# Altium schematic symbol library amp.SchLib: 108 symbols
Pins are listed as number, name and electrical type; pins without a type are passive.

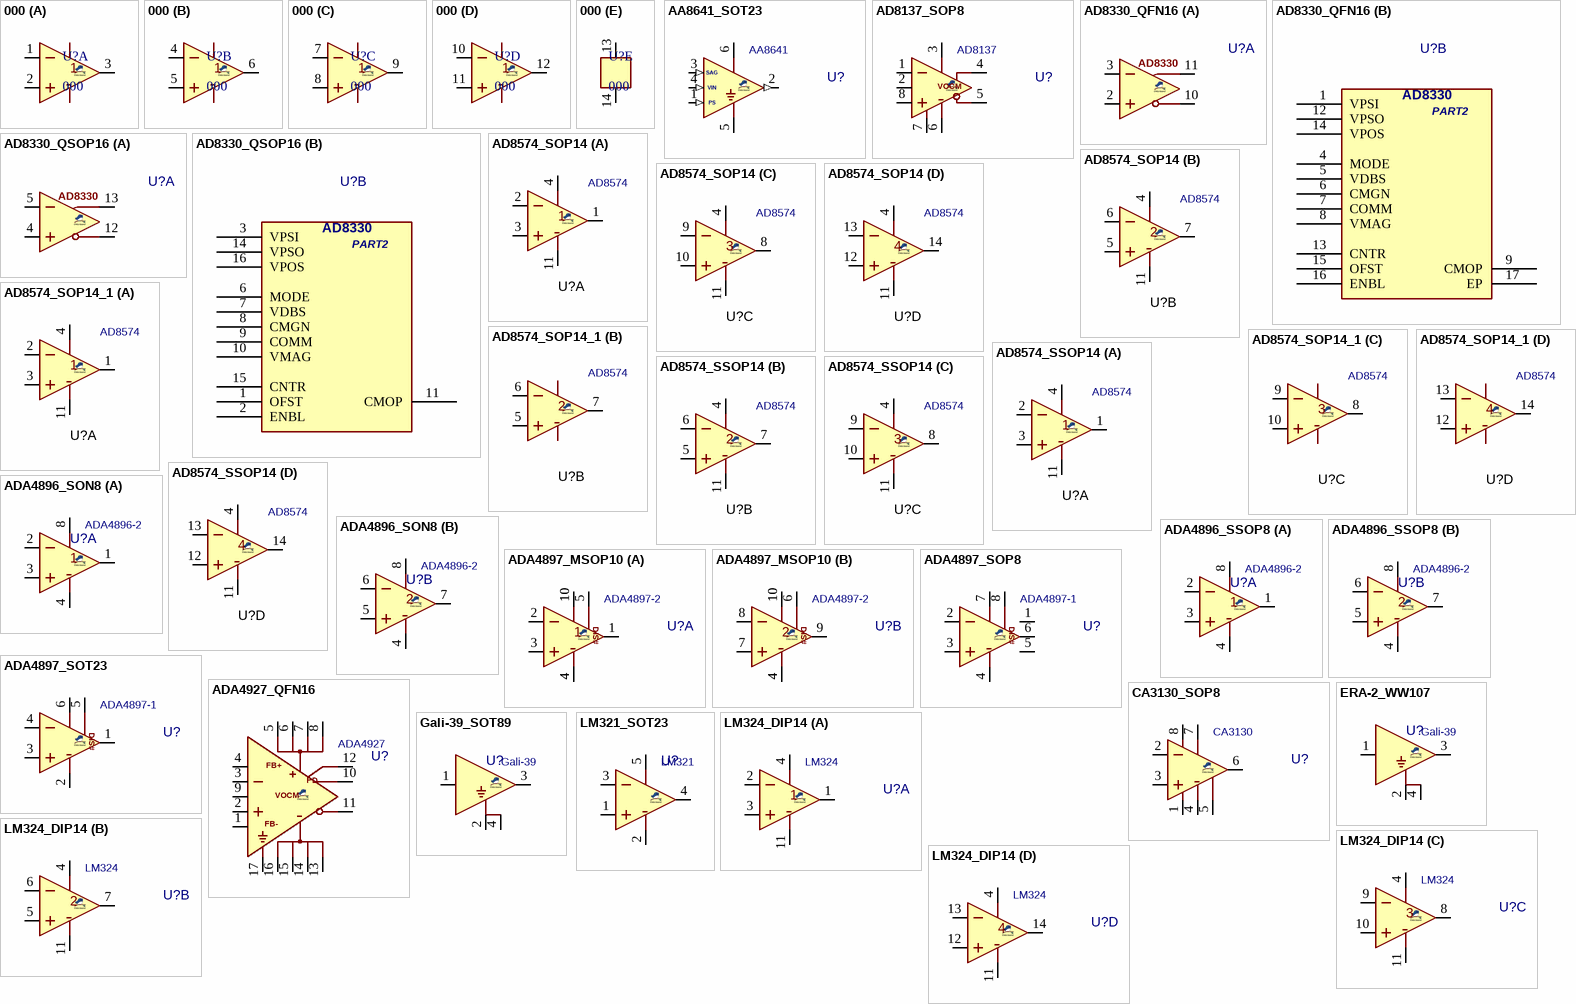
[diagram p0: symbols 000 to LM324_DIP14]

## 000
designator U?
footprint SO_14 (SOP, SOIC, 3.9mm width, 1.27mm pitch,)
part A pins: 1, 2, 3
part B pins: 4, 5, 6
part C pins: 7, 8, 9
part D pins: 10, 11, 12
part E pins: 13, 14

## AA8641_SOT23
designator U?, comment AA8641
AMP, Video, low voltage; MANF: Agamem; PARAM2: 2.8~5.5v; PARAM: BW 100k~6MHz, -40~85°C; MANF_P#: AA8641; PRICE: 2.8$; PACKAGE: SOT-23-6; VALUE: AA8641
footprint SO_8
pins: 1 PS (in), 2 OUT (out), 3 SAG (in), 4 IN (in), 5 GND (power), 6 VCC (power)
text: VIN

## AD8137_SOP8
designator U?, comment AD8137
AMP, Differential, LowCost, LowPWR; MANF: Analog Devices; MANF_P#: AD8137YRZ; PARAM2: 2.7~12v (±1.35~6V); PARAM: BW 110MHz, 450V/uS, -40~125°C; PRICE: 2.8$; VALUE: AD8137
footprint SO_8
pins: 1 IN-, 2 OCM (power), 3 V+, 4 OP, 5 ON, 6 V-, 7 EN, 8 IN+
text: VOCM

## AD8330_QFN16
designator U?, comment AD8330  (value not drawn)
AMP, Differential, Hi-Sp, Fully-Diff, VGA; MANF: Analog Devices; PARAM: 150MHz BW; PARAM2: 2.7~6V; MANF_P#: AD8330ACPZ; VALUE: AD8330
footprint QFN50_16T_3X3 (RGT PVQFN (TI), 16-lead, pitch: 0.5mm, 3x3mm)
part A pins: 2 INHI, 3 INLO, 10 OPLO, 11 OPHI
part B pins: 1 VPSI (power), 4 MODE, 5 VDBS, 6 CMGN, 7 COMM, 8 VMAG, 9 CMOP, 12 VPSO (power), 13 CNTR, 14 VPOS (power), 15 OFST, 16 ENBL, 17 EP
part B text: PART2

## AD8330_QSOP16
designator U?, comment AD8330  (value not drawn)
AMP, Differential, Hi-Sp, Fully-Diff, VGA; MANF: Analog Devices; PARAM: 150MHz BW; PARAM2: 2.7~6V; MANF_P#: AD8330ACPZ; VALUE: AD8330
footprint SOG63_16 (SOP DBQ, QSOP, 16-Leads, Body 4.90x3.90mm, Pitch 0.635mm)
part A pins: 4 INHI, 5 INLO, 12 OPLO, 13 OPHI
part B pins: 1 OFST, 2 ENBL, 3 VPSI (power), 6 MODE, 7 VDBS, 8 CMGN, 9 COMM, 10 VMAG, 11 CMOP, 14 VPSO (power), 15 CNTR, 16 VPOS (power)
part B text: PART2

## AD8574_SOP14
designator U?, comment AD8574
AMP, Quad, Zero-Drift, Single-Supply, 10pA input; MANF: Analog Devices Inc; MANF_P#: AD8574ARZ; PARAM2: 2.7~5V; PARAM: 1uV OFFSET, 10pA input, -40~125°C; PRICE: 7.3$; VALUE: AD8574
footprint SO_14 (SOP, SOIC, 3.9mm width, 1.27mm pitch,)
part A pins: 1 OUT, 2 IN-, 3 IN+, 4 V+, 11 V-
part B pins: 4 V+, 5 IN+, 6 IN-, 7 OUT, 11 V-
part C pins: 4 V+, 8 OUT, 9 IN-, 10 IN+, 11 V-
part D pins: 4 V+, 11 V-, 12 IN+, 13 IN-, 14 OUT

## AD8574_SOP14_1
designator U?, comment AD8574
AMP, Quad, Zero-Drift, Single-Supply, 10pA input; MANF: Analog Devices Inc; MANF_P#: AD8574ARZ; PARAM2: 2.7~5V; PARAM: 1uV OFFSET, 10pA input, -40~125°C; PRICE: 7.3$; VALUE: AD8574
footprint SO_14 (SOP, SOIC, 3.9mm width, 1.27mm pitch,)
part A pins: 1 OUT, 2 IN-, 3 IN+, 4 V+, 11 V-
part B pins: 5 IN+, 6 IN-, 7 OUT
part C pins: 8 OUT, 9 IN-, 10 IN+
part D pins: 12 IN+, 13 IN-, 14 OUT

## AD8574_SSOP14
designator U?, comment AD8574
AMP, Quad, Zero-Drift, Single-Supply, 10pA input; MANF: Analog Devices Inc; MANF_P#: AD8574TRU; PARAM2: 2.7~5V; PARAM: 1uV OFFSET, 10pA input, -40~125°C; PRICE: 7.3$; VALUE: AD8574
footprint SOG65_14 (PW TSSOP (TI), MO-153-AB (JEDEC), 14Lead, pitch: 0.65mm, 5x4.4x1.2mm)
part A pins: 1 OUT, 2 IN-, 3 IN+, 4 V+, 11 V-
part B pins: 4 V+, 5 IN+, 6 IN-, 7 OUT, 11 V-
part C pins: 4 V+, 8 OUT, 9 IN-, 10 IN+, 11 V-
part D pins: 4 V+, 11 V-, 12 IN+, 13 IN-, 14 OUT

## ADA4896_SON8
designator U?, comment ADA4896-2
AMP, Low Noise, LowPower, LowDistortion; MANF: Analog Devices; MANF_P#: ADA4896-2ACPZ; PARAM2: 3~10v,  1nV/√Hz, 230MHz BW; PARAM: 3mA power, -40~125°C; PRICE: 7.7$; VALUE: ADA4896-2
footprint SON50_8T_3X3 (WSON-8, DRG, LFCSP_WD, 3X3mm 0.5mm pitch with Thermal pad)
pins on every part: 4 V-, 8 V+
part A pins: 1 OUT, 2 IN-, 3 IN+
part B pins: 5 IN+, 6 IN-, 7 OUT

## ADA4896_SSOP8
designator U?, comment ADA4896-2
AMP, Low Noise, LowPower, LowDistortion; MANF: Analog Devices; MANF_P#: ADA4896-2ARMZ; PARAM2: 3~10v,  1nV/√Hz, 230MHz BW; PARAM: 3mA power, -40~125°C; PRICE: 7.7$; VALUE: ADA4896-2
footprint SOG65_8_3 (pitch: 0.65mm, 3.0mmX3.0mm, SSOP DCT SM8 (TI), TSSOP8, MICRO8, DGK, MSOP8, RM-8, MS8, MSOP-8, usop8/8uSOP)
pins on every part: 4 V-, 8 V+
part A pins: 1 OUT, 2 IN-, 3 IN+
part B pins: 5 IN+, 6 IN-, 7 OUT

## ADA4897_MSOP10
designator U?, comment ADA4897-2
AMP, Low Noise, LowPower, LowDistortion; MANF: Analog Devices; MANF_P#: ADA4897-2ARMZ; PARAM2: 3~10v,  1nV/√Hz, 230MHz BW; PARAM: 3mA power, -40~125°C; PRICE: 7.7$; VALUE: ADA4897-2
footprint SOG50_10 (MSSOP10, 3X3mm 0.5mm pitch, S-PDSO10_S300-50, MSOP10, 10uSOP/usop10 (Dallas), MO-187BA(JEDEC))
pins on every part: 4 V-, 4 V-, 10 V+, 10 V+
part A pins: 1 OUT, 2 IN-, 3 IN+, 5 DISABLE1#
part B pins: 6 DISABLE1#, 7 IN+, 8 IN-, 9 OUT
part A text: DIS#
part B text: DIS#

## ADA4897_SOP8
designator U?, comment ADA4897-1
AMP, Low Noise, LowPower, LowDistortion; MANF: Analog Devices; MANF_P#: ADA4897-1ARZ; PARAM2: 3~10v,  1nV/√Hz, 230MHz BW; PARAM: 3mA power, -40~125°C; PRICE: 5$; VALUE: ADA4897-1
footprint SO_8 (SOP-8, 5x3.9mm body 1.27mm pitch, SOT96-1, M08A, S8, SOIC8, VO8, MS-012AA(JEDEC), R-8, 8S2, VOG8)
pins: 1 NC, 2 IN-, 3 IN+, 4 V-, 5 NC, 6 OUT, 7 V+, 8 DISABLE#
text: DIS#

## ADA4897_SOT23
designator U?, comment ADA4897-1
AMP, Low Noise, LowPower, LowDistortion; MANF: Analog Devices; MANF_P#: ADA4897-1ARJZ; PARAM2: 3~10v,  1nV/√Hz, 230MHz BW; PARAM: 3mA power, -40~125°C; PRICE: 6$; PACKAGE: SOT-23-6; VALUE: ADA4897-1
footprint SOT23_6 (SOT-23-6, DDC, MICRO6, SOT-26, SOT457, SuperSOT6, TSOP-6, HMC313, MO-178AB, MO-193AA, TSOT)
pins: 1 OUT, 2 V-, 3 IN+, 4 IN-, 5 DISABLE#, 6 V+
text: DIS#

## ADA4927_QFN16
designator U?, comment ADA4927
AMP, Differential, Hi-Sp, Fully-Diff, Ultralow Distortion Current Feedback; MANF: Analog Devices; PARAM: 2.3GHz BW; MANF_P#: ADA4927-1YCPZ; PRICE: 1= 9$; PARAM2: PARAM2; VALUE: ADA4927
footprint QFN50_16T_3X3 (RGT PVQFN (TI), 16-lead, pitch: 0.5mm, 3x3mm)
pins: 1 -FB, 2 IN+, 3 IN-, 4 +FB, 5 V+ (power), 6 V+ (power), 7 V+ (power), 8 V+ (power), 9 VOCM, 10 OUT+, 11 OUT-, 12 PD, 13 V- (power), 14 V- (power), 15 V- (power), 16 V- (power), 17 THERMAL
text: FB+; FB-

## CA3130_SOP8
designator U?, comment CA3130
AMP, 15MHz, BiMOS, MOSFET Input/CMOS Output; MANF: Intresil; MANF_P#: CA3130AM; PARAM2: 5~16V, ±2.5~±8V; VALUE: CA3130
footprint SO_8
pins: 1 OFFSET_NULL, 2 IN-, 3 IN+, 4 V-, 5 OFFSET_NULL, 6 OUT, 7 V+, 8 STROBE

## ERA-2_WW107
designator U?, comment Gali-39
AMP, RF, Monolithic, DC-6GHz; MANF: Mini-Circuits; MANF_P#: ERA-2+; PARAM2: +7~20V; VALUE: Gali-39
footprint RDB_4_2X2 (ERA, AF320/WW107/AF190/PAT (MINI-CIRCUITS), MSA-0986)
pins: 1 RFIN, 2 G, 3 RFOUT, 4 GND

## Gali-39_SOT89
designator U?, comment Gali-39
AMP, RF, Monolithic, DC-7 GHz; MANF: Mini-Circuits; MANF_P#: Gali-39+; PARAM2: +7~20V; VALUE: Gali-39
footprint SOT89_3 (SOT89, SOT-89, SBF-4089, SOT89A, GALI, SC-62, DF782, TO-243AA(JEDEC))
pins: 1 IN, 2 G, 3 OUT, 4 GND

## LM321_SOT23
designator U?, comment LM321
AMP, 1MHz, Lo-Pwr; MANF: Texas Instruments; MANF_P#: LM321MF; PARAM2: 3~32Vcc; PARAM: 1MHz BW, 45nA input bias, 430uA, -40~85°C; PACKAGE: SOT-23-5; VALUE: LM321
footprint SOT23_5 (SOT-23-5, SOT25, SOT-25, DBV(R-PDSO-G5), TSOT23-5, SC-74A, SOT23-5, S5-T (LINEAR), MO-178AA, MO-193AB(JEDEC), MF05A (NS), TSOP-6(ON), UJ-5 (AD))
pins: 1 IN+, 2 V-, 3 IN-, 4 OUT, 5 V+

## LM324_DIP14
designator U?, comment LM324
AMP, Quad, Single-Supply; MANF: ON, Texas Instruments, ST; MANF_P#: LM324AN; VALUE: LM324
footprint DIP_14 (DIP, pitch 2.54mm, 300mil Width)
pins on every part: 4 V+, 11 V-
part A pins: 1 OUT, 2 IN-, 3 IN+
part B pins: 5 IN+, 6 IN-, 7 OUT
part C pins: 8 OUT, 9 IN-, 10 IN+
part D pins: 12 IN+, 13 IN-, 14 OUT

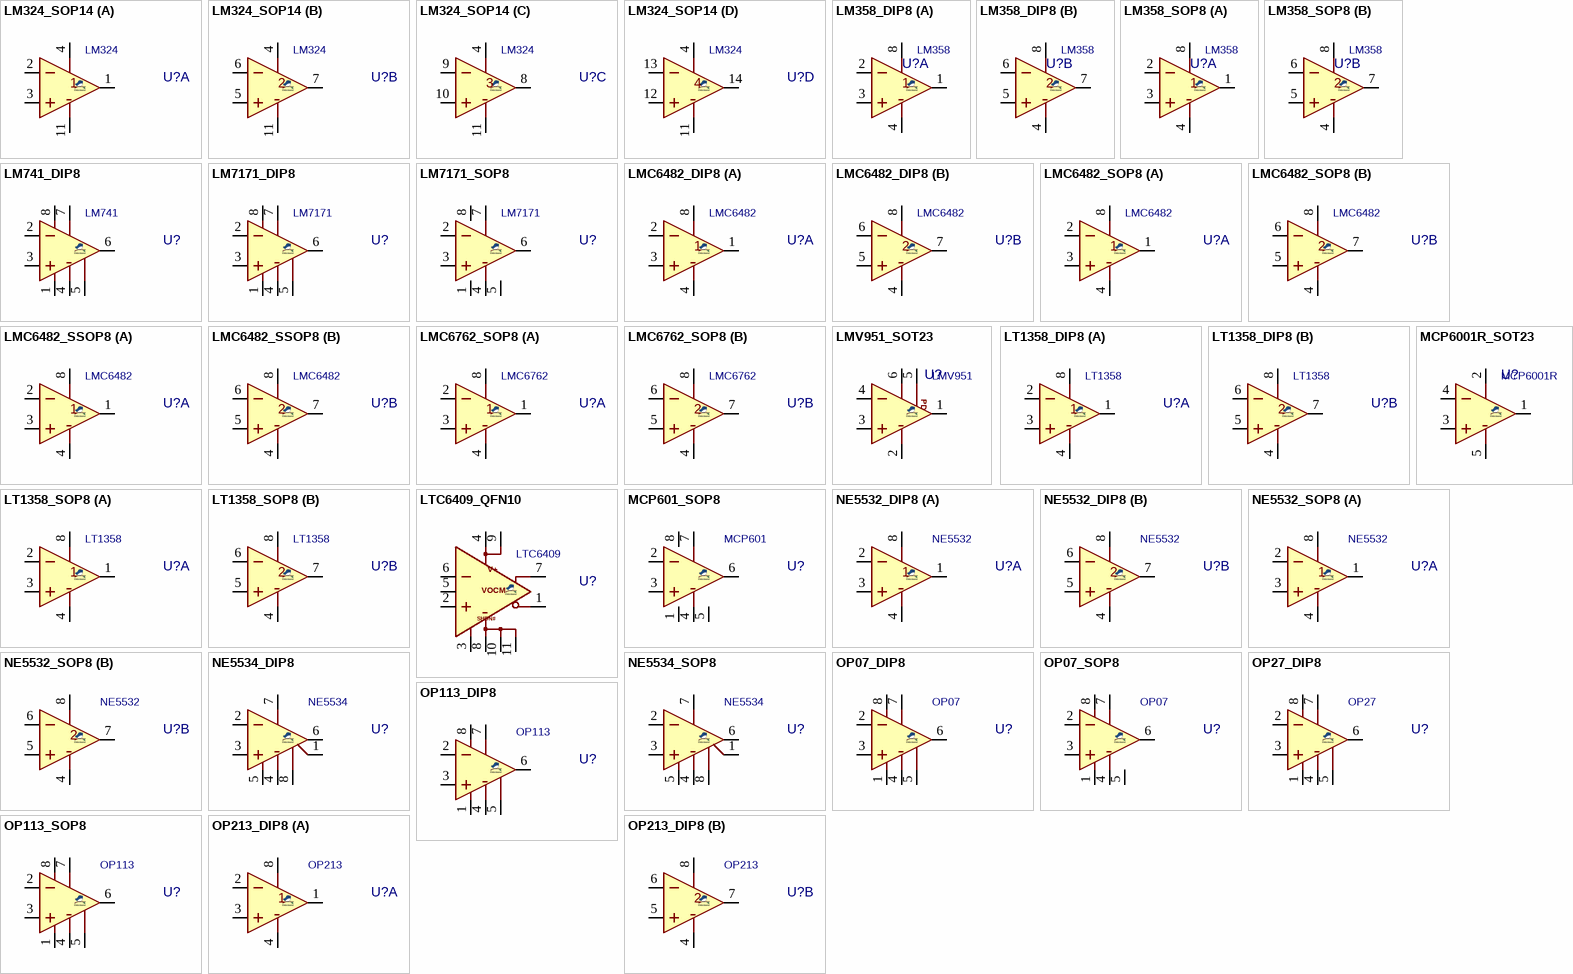
[diagram p1: symbols LM324_SOP14 to OP213_DIP8]

## LM324_SOP14
designator U?, comment LM324
AMP, Quad, Single-Supply; MANF: ON, Texas Instruments, ST; MANF_P#: LM324AD; VALUE: LM324
footprint SO_14
pins on every part: 4 V+, 11 V-
part A pins: 1 OUT, 2 IN-, 3 IN+
part B pins: 5 IN+, 6 IN-, 7 OUT
part C pins: 8 OUT, 9 IN-, 10 IN+
part D pins: 12 IN+, 13 IN-, 14 OUT

## LM358_DIP8
designator U?, comment LM358
AMP, Dual, Low-Power; MANF: Texas Instruments, Fairchild; MANF_P#: LM358AN; PARAM2: 3 V ~ 32 V, ±1.5 V ~ 16 V; PRICE: -; VALUE: LM358
footprint DIP_8 (DIP, pitch 2.54mm, 300mil Width)
pins on every part: 4 V-, 8 V+
part A pins: 1 OUT, 2 IN-, 3 IN+
part B pins: 5 IN+, 6 IN-, 7 OUT

## LM358_SOP8
designator U?, comment LM358
AMP, Dual, Low-Power; MANF: Texas Instruments, Fairchild; MANF_P#: LM358AMX; PARAM2: 3 V ~ 32 V, ±1.5 V ~ 16 V; PRICE: 1=0.47, 25=0.31, 100=0.2547, 250=0.21224, 500=0.17632, 750=0.14692, 1000=0.1306 (USD); VALUE: LM358
footprint SO_8
pins on every part: 4 V-, 8 V+
part A pins: 1 OUT, 2 IN-, 3 IN+
part B pins: 5 IN+, 6 IN-, 7 OUT

## LM741_DIP8
designator U?, comment LM741
AMP, General-Purpose; MANF: Texas Instruments; MANF_P#: LM741CN; VALUE: LM741
footprint DIP_8 (DIP, pitch 2.54mm, 300mil Width)
pins: 1 OFFSET_NULL, 2 IN-, 3 IN+, 4 V-, 5 OFFSET_NULL, 6 OUT, 7 V+, 8 NC

## LM7171_DIP8
designator U?, comment LM7171
AMP, Very High Sp, High Output Current, VoltageFeedback; MANF: Texas Instruments; MANF_P#: LM7171BIN; VALUE: LM7171
footprint DIP_8 (DIP, pitch 2.54mm, 300mil Width)
pins: 1, 2 IN-, 3 IN+, 4 V-, 5, 6 OUT, 7 V+, 8

## LM7171_SOP8
designator U?, comment LM7171
AMP, Very High Sp, High Output Current, VoltageFeedback; MANF: Texas Instruments; MANF_P#: LM7171BIMX, LM7171BIM, LM7171AIM; VALUE: LM7171
footprint SO_8
pins: 1, 2 IN-, 3 IN+, 4 V-, 5, 6 OUT, 7 V+, 8

## LMC6482_DIP8
designator U?, comment LMC6482
AMP, Dual,; MANF: Texas Instruments; MANF_P#: LMC6482IN, LMC6482AIN; VALUE: LMC6482
footprint DIP_8 (DIP, pitch 2.54mm, 300mil Width)
part A pins: 1 OUT, 2 IN-, 3 IN+, 4 V-, 8 V+
part B pins: 4 V-, 5 IN+, 6 IN-, 7 OUT, 8 V+

## LMC6482_SOP8
designator U?, comment LMC6482
AMP, Dual,; MANF: Texas Instruments; MANF_P#: LMC6482AIMX, LMC6482IMX, LMC6482AIM, LMC6482IM; VALUE: LMC6482
footprint SO_8
part A pins: 1 OUT, 2 IN-, 3 IN+, 4 V-, 8 V+
part B pins: 4 V-, 5 IN+, 6 IN-, 7 OUT, 8 V+

## LMC6482_SSOP8
designator U?, comment LMC6482
AMP, Dual,; MANF: Texas Instruments; MANF_P#: LMC6482IMMX, LMC6482IMM; VALUE: LMC6482
footprint SOG65_8_3 (pitch: 0.65mm, 3.0mmX3.0mm, SSOP DCT SM8 (TI), TSSOP8, MICRO8, DGK, MSOP8, RM-8, MS8, MSOP-8, usop8/8uSOP)
part A pins: 1 OUT, 2 IN-, 3 IN+, 4 V-, 8 V+
part B pins: 4 V-, 5 IN+, 6 IN-, 7 OUT, 8 V+

## LMC6762_SOP8
designator U?, comment LMC6762
AMP, Dual, MicroPower, Push-Pull Output, R-To-R Input CMOS Comparator; MANF: Texas Instruments; MANF_P#: LMC6762BIMX, LMC6762BIM, LMC6762AIMX, LMC6762AIM; VALUE: LMC6762
footprint SO_8
part A pins: 1 OUT, 2 IN-, 3 IN+, 4 V-, 8 V+
part B pins: 4 V-, 5 IN+, 6 IN-, 7 OUT, 8 V+

## LMV951_SOT23
designator U?, comment LMV951
AMP, 1V 2.7MHz RR Input & Output; MANF: Texas Instruments; MANF_P#: LMV951MK, LMV951MKX; PACKAGE: SOT-23-6; VALUE: LMV951
footprint SOT23_6 (SOT-23-6, MICRO6, SOT-26, SOT457, SuperSOT6, TSOP-6, HMC313, MO-178AB, MO-193AA, TSOT)
pins: 1 OUT, 2 V-, 3 IN+, 4 IN-, 5 SHDN (power), 6 V+
text: PD

## LT1358_DIP8
designator U?, comment LT1358
AMP, Dual, 25MHz, 600V/µs; MANF: Linear Technology; MANF_P#: LT1358CN8, LT1358IN8; VALUE: LT1358
footprint DIP_8 (DIP, pitch 2.54mm, 300mil Width)
part A pins: 1 OUT, 2 IN-, 3 IN+, 4 V-, 8 V+
part B pins: 4 V-, 5 IN+, 6 IN-, 7 OUT, 8 V+

## LT1358_SOP8
designator U?, comment LT1358
AMP, Dual, 25MHz, 600V/µs; MANF: Linear Technology; MANF_P#: LT1358CS8, LT1358IS8; VALUE: LT1358
footprint SO_8
part A pins: 1 OUT, 2 IN-, 3 IN+, 4 V-, 8 V+
part B pins: 4 V-, 5 IN+, 6 IN-, 7 OUT, 8 V+

## LTC6409_QFN10
designator U?, comment LTC6409
AMP, Differential, 10GHz BW; MANF: Analog Devices; MANF_P#: LTC6409IUDB; PARAM2: 2.7~5.25v; PARAM: BW 10GHz, 3300V/uS, -40~85°C; PRICE: 10$; PACKAGE: QFN-10 3x2mm UDB; VALUE: LTC6409
footprint QFN50_10T_3020_UDB (QFN-10 3x2mm, UDB)
pins: 1 -OUT, 2 +IN, 3 SHDN#, 4 V+, 5 VOCM, 6 -IN, 7 +OUT, 8 V-, 9 V+, 10 V-, 11 V-

## MCP601_SOP8
designator U?, comment MCP601
AMP, 2.7~6.0V Single Supply CMOS; MANF: Microchip; MANF_P#: MCP601-I/SN, MCP601T-E/SN, MCP601-E/SN; VALUE: MCP601
footprint SO_8
pins: 1, 2 IN-, 3 IN+, 4 V-, 5, 6 OUT, 7 V+, 8

## MCP6001R_SOT23
designator U?, comment MCP6001R
AMP, Lo-Pwr, rail-to-rail, 1MHz; MANF: Microchip; MANF_P#: MCP6001RT-I/OT; PARAM2: 1.8~6Vcc; PARAM: -40~+85°C; PRICE: 0.2$; PACKAGE: SOT-23-5; VALUE: MCP6001R
footprint SOT23_5 (SOT-23-5, SOT25, SOT-25, DBV(R-PDSO-G5), TSOT23-5, SC-74A, SOT23-5, S5-T (LINEAR), MO-178AA, MO-193AB(JEDEC), MF05A (NS), TSOP-6(ON), UJ-5 (AD))
pins: 1 OUT, 2 V+, 3 IN+, 4 IN-, 5 V-

## NE5532_DIP8
designator U?, comment NE5532
AMP, Dual, Low-Noise; MANF: ON, Texas Instruments; MANF_P#: NE5532AN, NE5532P; VALUE: NE5532
footprint DIP_8 (DIP, pitch 2.54mm, 300mil Width)
part A pins: 1 OUT, 2 IN-, 3 IN+, 4 V-, 8 V+
part B pins: 4 V-, 5 IN+, 6 IN-, 7 OUT, 8 V+

## NE5532_SOP8
designator U?, comment NE5532
AMP, Dual, Low-Noise; MANF: ON, Texas Instruments; MANF_P#: NE5532AD; VALUE: NE5532
footprint SO_8
part A pins: 1 OUT, 2 IN-, 3 IN+, 4 V-, 8 V+
part B pins: 4 V-, 5 IN+, 6 IN-, 7 OUT, 8 V+

## NE5534_DIP8
designator U?, comment NE5534
AMP, Low-Noise; MANF: ON; MANF_P#: NE5534N; PARAM2: ±3~±20V; PARAM: 3.5 nV/√Hz; VALUE: NE5534
footprint DIP_8 (DIP, pitch 2.54mm, 300mil Width)
pins: 1 BALANCE, 2 IN-, 3 IN+, 4 V-, 5 COMP1, 6 OUT, 7 V+, 8 COMP2

## NE5534_SOP8
designator U?, comment NE5534
AMP, Low-Noise; MANF: ON, Texas Instruments; MANF_P#: NE5534AD; PARAM2: ±3~±20V; PARAM: 3.5 nV/√Hz; PRICE: 1$; VALUE: NE5534
footprint SO_8
pins: 1 BALANCE, 2 IN-, 3 IN+, 4 V-, 5 CMP1, 6 OUT, 7 V+, 8 CMP2

## OP07_DIP8
designator U?, comment OP07
AMP, Ultralow Offset; MANF: Analog Devices; MANF_P#: OP07EPZ, OP07DNZ, OP07CPZ; PARAM2: ±3~18V; VALUE: OP07
footprint DIP_8 (DIP, pitch 2.54mm, 300mil Width)
pins: 1 VOSTRM, 2 IN-, 3 IN+, 4 V-, 5 NC, 6 OUT, 7 V+, 8 VOSTRIM

## OP07_SOP8
designator U?, comment OP07
AMP, Ultralow Offset; MANF: Analog Devices; MANF_P#: OP07CSZ, OP07DRZ; PARAM2: ±3~18V; VALUE: OP07
footprint SO_8
pins: 1 VOSTRM, 2 IN-, 3 IN+, 4 V-, 5 NC, 6 OUT, 7 V+, 8 VOSTRIM

## OP27_DIP8
designator U?, comment OP27
AMP, Ultralow Offset; MANF: Analog Devices; PARAM2: ±3~18V; MANF_P#: OP27; VALUE: OP27
footprint DIP_8 (DIP, pitch 2.54mm, 300mil Width)
pins: 1 VOSTRM, 2 IN-, 3 IN+, 4 V-, 5 NC, 6 OUT, 7 V+, 8 VOSTRIM

## OP113_DIP8
designator U?, comment OP113
AMP, Low-Noise, Low Drift, Single-Supply; MANF: Analog Devices; MANF_P#: OP113EPZ; PARAM2: 4~36V, ±2~±18V; PARAM: 3.4 MHz BW; VALUE: OP113
footprint DIP_8 (DIP, pitch 2.54mm, 300mil Width)
pins: 1 OFFSET_NULL, 2 IN-, 3 IN+, 4 V-, 5 OFFSET_NULL, 6 OUT, 7 V+, 8 NC

## OP113_SOP8
designator U?, comment OP113
AMP, Low-Noise, Low Drift, Single-Supply; MANF: Analog Devices; MANF_P#: OP113ESZ; PARAM2: 4~36V, ±2~±18V; PARAM: 3.4 MHz BW; VALUE: OP113
footprint SO_8
pins: 1 OFFSET_NULL, 2 IN-, 3 IN+, 4 V-, 5 OFFSET_NULL, 6 OUT, 7 V+, 8 NC

## OP213_DIP8
designator U?, comment OP213
AMP, DUAL, Low-Noise, Low Drift, Single-Supply; MANF: Analog Devices; MANF_P#: OP213EP, OP213FP; PARAM2: 4~36V, ±2~±18V; VALUE: OP213
footprint DIP_8 (DIP, pitch 2.54mm, 300mil Width)
part A pins: 1 OUT, 2 IN-, 3 IN+, 4 V-, 8 V+
part B pins: 4 V-, 5 IN+, 6 IN-, 7 OUT, 8 V+

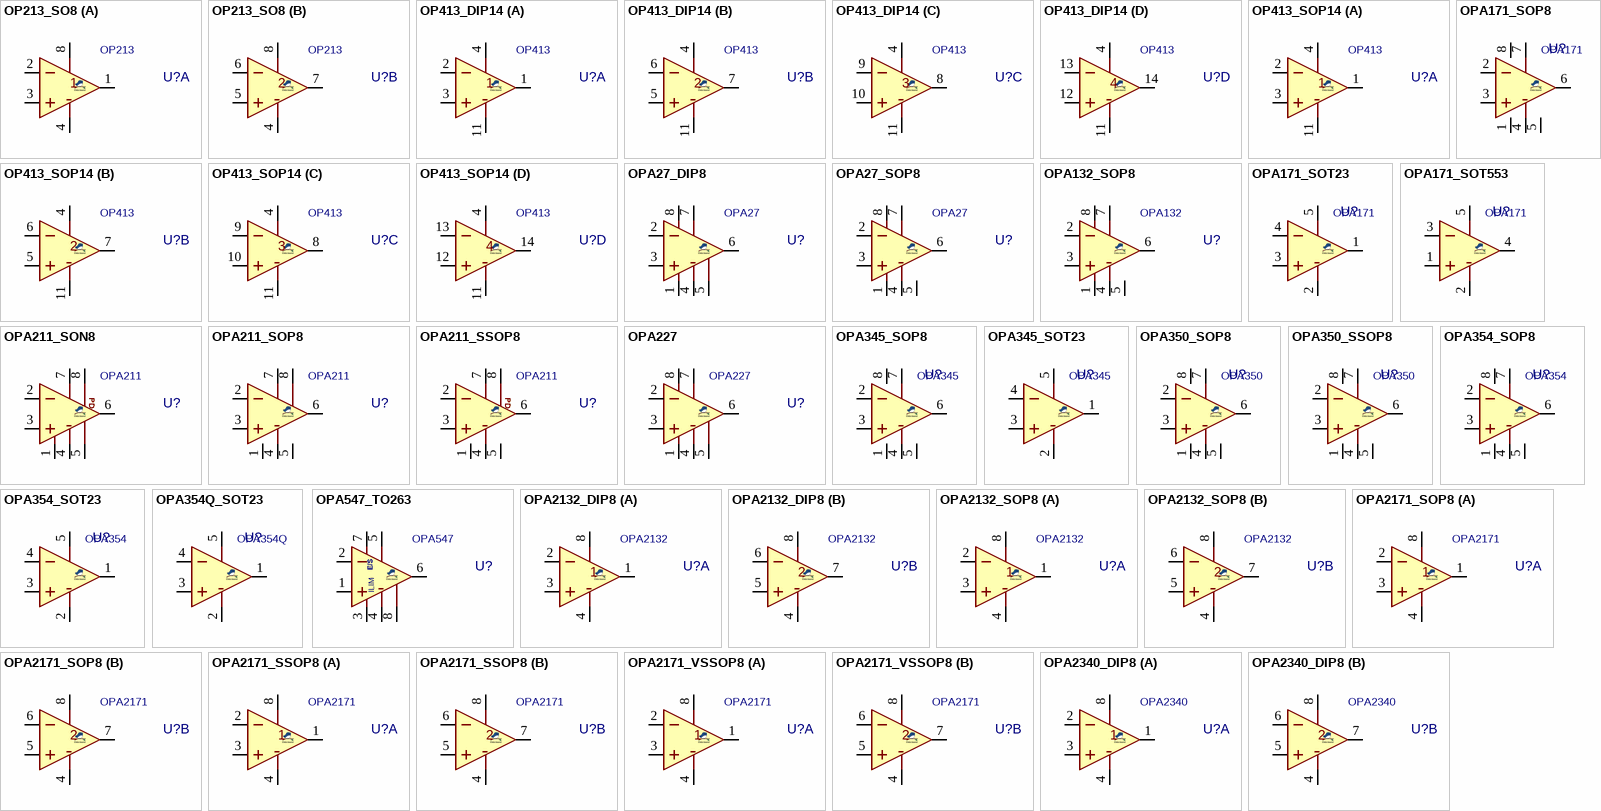
[diagram p2: symbols OP213_SO8 to OPA2340_DIP8]

## OP213_SO8
designator U?, comment OP213
AMP, DUAL, Low-Noise, Low Drift, Single-Supply; MANF: Analog Devices; MANF_P#: OP213ES, OP213FS; PARAM2: 4~36V, ±2~±18V; VALUE: OP213
footprint SO_8
part A pins: 1 OUT, 2 IN-, 3 IN+, 4 V-, 8 V+
part B pins: 4 V-, 5 IN+, 6 IN-, 7 OUT, 8 V+

## OP413_DIP14
designator U?, comment OP413
AMP, Low-Noise, Low Drift, Single-Supply; MANF: Analog Devices; MANF_P#: OP413EP, OP413FP; PARAM2: 4~36V, ±2~±18V; VALUE: OP413
footprint DIP_14 (DIP, pitch 2.54mm, 300mil Width)
pins on every part: 4 V+, 11 V-
part A pins: 1 OUT, 2 IN-, 3 IN+
part B pins: 5 IN+, 6 IN-, 7 OUT
part C pins: 8 OUT, 9 IN-, 10 IN+
part D pins: 12 IN+, 13 IN-, 14 OUT

## OP413_SOP14
designator U?, comment OP413
AMP, Low-Noise, Low Drift, Single-Supply; MANF: Analog Devices; MANF_P#: OP413ES, OP413FS; PARAM2: 4~36V, ±2~±18V; VALUE: OP413
footprint SO_14
pins on every part: 4 V+, 11 V-
part A pins: 1 OUT, 2 IN-, 3 IN+
part B pins: 5 IN+, 6 IN-, 7 OUT
part C pins: 8 OUT, 9 IN-, 10 IN+
part D pins: 12 IN+, 13 IN-, 14 OUT

## OPA27_DIP8
designator U?, comment OPA27
AMP, Ultra-Low Noise, Precision; MANF: Texas Instruments; MANF_P#: OPA27GP; PARAM2: ±4~22V,  4.5nV/√Hz, 8MHz; PARAM: 100uV OFFSET, 0.4uV/°C, -40~85°C; PRICE: 3.6$; VALUE: OPA27
footprint DIP_8 (DIP, pitch 2.54mm, 300mil Width)
pins: 1 VOSTRM, 2 IN-, 3 IN+, 4 V-, 5 NC, 6 OUT, 7 V+, 8 VOSTRIM

## OPA27_SOP8
designator U?, comment OPA27
AMP, Ultra-Low Noise, Precision; MANF: Texas Instruments; MANF_P#: OPA27GU; PARAM2: ±4~22V,  4.5nV/√Hz, 8MHz; PARAM: 100uV OFFSET, 0.4uV/°C, -40~85°C; PRICE: 6000t@PAYA, 3.7$; VALUE: OPA27
footprint SO_8 (SOP-8, 5x3.9mm body 1.27mm pitch, SOT96-1, M08A, S8, SOIC8, VO8, MS-012AA(JEDEC), R-8, 8S2, VOG8)
pins: 1 VOSTRM, 2 IN-, 3 IN+, 4 V-, 5 NC, 6 OUT, 7 V+, 8 VOSTRIM

## OPA132_SOP8
designator U?, comment OPA132
AMP, Ultra-Low Noise, Precision; MANF: Texas Instruments; MANF_P#: OPA132U; PARAM2: ±2.5~±18V, 8nV/√Hz, 8MHz BW; PARAM: 50pA, 20V/us, 500uV OFFSET, -40~125°C; PRICE: 5000t@PAYA, 4$; VALUE: OPA132
footprint SO_8 (SOP-8, 5x3.9mm body 1.27mm pitch, SOT96-1, M08A, S8, SOIC8, VO8, MS-012AA(JEDEC), R-8, 8S2, VOG8)
pins: 1 VOSTRM, 2 IN-, 3 IN+, 4 V-, 5 NC, 6 OUT, 7 V+, 8 VOSTRIM

## OPA171_SOP8
designator U?, comment OPA171
AMP, Low Noise, Low Drift, Single-Supply; MANF: Texas Instruments; MANF_P#: OPA171AID; PARAM2: 2.7~36V, ±1.35~±18V, 3MHz BW; PARAM: 8pA input, 14nV/√Hz, -40~125°C; PRICE: 5000t@PAYA, 1.4$; VALUE: OPA171
footprint SO_8 (SOP-8, 5x3.9mm body 1.27mm pitch, SOT96-1, M08A, S8, SOIC8, VO8, MS-012AA(JEDEC), R-8, 8S2, VOG8)
pins: 1 NC, 2 IN-, 3 IN+, 4 V-, 5 NC, 6 OUT, 7 V+, 8 NC

## OPA171_SOT23
designator U?, comment OPA171
AMP, Low Noise, Low Drift, Single-Supply; MANF: Texas Instruments; MANF_P#: OPA171AIDBV; PARAM2: 2.7~36V, ±1.35~±18V, 3MHz BW; PARAM: 8pA input, 14nV/√Hz, -40~125°C; PRICE: 5000t@PAYA, 1.4$; PACKAGE: SOT-23-5; VALUE: OPA171
footprint SOT23_5 (SOT-23-5, SOT25, SOT-25, DBV(R-PDSO-G5), TSOT23-5, SC-74A, SOT23-5, S5-T (LINEAR), MO-178AA, MO-193AB(JEDEC), MF05A (NS), TSOP-6(ON), UJ-5 (AD))
pins: 1 OUT, 2 V-, 3 IN+, 4 IN-, 5 V+

## OPA171_SOT553
designator U?, comment OPA171
AMP, Low Noise, Low Drift, Single-Supply; MANF: Texas Instruments; MANF_P#: OPA171AIDRL; PARAM2: 2.7~36V, ±1.35~±18V, 3MHz BW; PARAM: 8pA input, 14nV/√Hz, -40~125°C; PRICE: 1.6$; VALUE: OPA171
footprint SOT553_5 (SOT-553, 5 LEAD, Body 1.2x1.6mm, Pitch 0.50mm, DSO50_5_160X120)
pins: 1 IN+, 2 V-, 3 IN-, 4 OUT, 5 V+

## OPA211_SON8
designator U?, comment OPA211
AMP, Precision, 1.1nV/rtHz Noise, Lo Pwr; MANF: Texas Instruments; MANF_P#: OPA211AIDRG; PARAM2: ±2.25~±18V/4.5~36V, 80MHz BW; PARAM: 30mA out, 3.6mA supply, -40~125oC; PRICE: 7$; VALUE: OPA211
footprint SON50_8T_3030 (WSON-8, DRG, LFCSP_WD, 3X3mm 0.5mm pitch with Thermal pad)
pins: 1, 2 IN-, 3 IN+, 4 V-, 5, 6 OUT, 7 V+, 8 SHDN
text: PD

## OPA211_SOP8
designator U?, comment OPA211
AMP, Precision, 1.1nV/rtHz Noise, Lo Pwr; MANF: Texas Instruments; MANF_P#: OPA211AID, OPA211ID; PARAM2: ±2.25~±18V/4.5~36V, 80MHz BW; PARAM: 30mA out, 3.6mA supply, -40~125oC; PRICE: 7$; VALUE: OPA211
footprint SO_8
pins: 1, 2 IN-, 3 IN+, 4 V-, 5, 6 OUT, 7 V+, 8 SHDN

## OPA211_SSOP8
designator U?, comment OPA211
AMP, Precision, 1.1nV/rtHz Noise, Lo Pwr; MANF: Texas Instruments; MANF_P#: OPA211AIDGK, OPA211MDGKTEP, OPA211IDGK; PARAM2: ±2.25~±18V/4.5~36V, 80MHz BW; PARAM: 30mA out, 3.6mA supply, -40~125oC; PRICE: 7$; VALUE: OPA211
footprint SOG65_8_3 (pitch: 0.65mm, 3.0mmX3.0mm, SSOP DCT SM8 (TI), TSSOP8, MICRO8, DGK, MSOP8, RM-8, MS8, MSOP-8, usop8/8uSOP)
pins: 1, 2 IN-, 3 IN+, 4 V-, 5, 6 OUT, 7 V+, 8 SHDN
text: PD

## OPA227
designator U?
AMP, High Precision, Low Noise, 3nV/√Hz; MANF: Texas Instruments; MANF_P#: OPA227UA; PARAM2: ±2.5~±18V, 8MHz BW; PARAM: 10nA input, -40~85°C; VALUE: OPA227
footprint SO_8
pins: 1 TRIM, 2 IN-, 3 IN+, 4 V-, 5 NC, 6 OUT, 7 V+, 8 TRIM

## OPA345_SOP8
designator U?, comment OPA345
AMP, Low Power, Rail-to-Rail, Single-Supply; MANF: Texas Instruments; MANF_P#: OPA345UA; PARAM2: 2.5~5.5V, 3MHz BW; PARAM: 2v/us, -40~85°C; PRICE: 6000t@PAYA, 1.6$; VALUE: OPA345
footprint SO_8 (SOP-8, 5x3.9mm body 1.27mm pitch, SOT96-1, M08A, S8, SOIC8, VO8, MS-012AA(JEDEC), R-8, 8S2, VOG8)
pins: 1 NC, 2 IN-, 3 IN+, 4 V-, 5 NC, 6 OUT, 7 V+, 8 NC

## OPA345_SOT23
designator U?, comment OPA345
AMP, Low Power, Rail-to-Rail, Single-Supply; MANF: Texas Instruments; MANF_P#: OPA345NA; PARAM2: 2.5~5.5V, 3MHz BW; PARAM: 2v/us, -40~85°C; PRICE: 1.5$; PACKAGE: SOT-23-5; VALUE: OPA345
footprint SOT23_5 (SOT-23-5, SOT25, SOT-25, DBV(R-PDSO-G5), TSOT23-5, SC-74A, SOT23-5, S5-T (LINEAR), MO-178AA, MO-193AB(JEDEC), MF05A (NS), TSOP-6(ON), UJ-5 (AD))
pins: 1 OUT, 2 V-, 3 IN+, 4 IN-, 5 V+

## OPA350_SOP8
designator U?, comment OPA350
AMP, Low Power, Rail-to-Rail, Single-Supply; MANF: Texas Instruments; MANF_P#: OPA350UA; PARAM2: 2.7~5.5V, 38MHz BW; PARAM: 5nV/√Hz, 22V/us, -40~85°C; PRICE: 2.7$; VALUE: OPA350
footprint SO_8 (SOP-8, 5x3.9mm body 1.27mm pitch, SOT96-1, M08A, S8, SOIC8, VO8, MS-012AA(JEDEC), R-8, 8S2, VOG8)
pins: 1 NC, 2 IN-, 3 IN+, 4 V-, 5 NC, 6 OUT, 7 V+, 8 NC

## OPA350_SSOP8
designator U?, comment OPA350
AMP, Low Power, Rail-to-Rail, Single-Supply; MANF: Texas Instruments; MANF_P#: OPA350EA; PARAM2: 2.7~5.5V, 38MHz BW; PARAM: 5nV/√Hz, 22V/us, -40~85°C; PRICE: 3$; VALUE: OPA350
footprint SOG65_8_3 (TSSOP8, MICRO8, DGK VSSOP-8, pitch: 0.65mm, 3X3mm, MSOP8, RM-8, MS8, MSOP-8, TSSO3X5-G8/D3.1, 8 uMAX, usop8/8uSOP, MO-187AA, MO-153AA, SSOP DCT (TI))
pins: 1 NC, 2 IN-, 3 IN+, 4 V-, 5 NC, 6 OUT, 7 V+, 8 NC

## OPA354_SOP8
designator U?, comment OPA354
AMP, Low Noise, Rail-to-Rail, Single-Supply; MANF: Texas Instruments; MANF_P#: OPA354AIDDA; PARAM2: 2.5~5.5V, 6.5nV/√Hz, 250MHz BW; PARAM: 100mA out, 3pA in, 150v/us, -40~125°C; PRICE: 1.8$; VALUE: OPA354
footprint SO_8 (SOP-8, 5x3.9mm body 1.27mm pitch, SOT96-1, M08A, S8, SOIC8, VO8, MS-012AA(JEDEC), R-8, 8S2, VOG8)
pins: 1 NC, 2 IN-, 3 IN+, 4 V-, 5 NC, 6 OUT, 7 V+, 8 NC

## OPA354_SOT23
designator U?, comment OPA354
AMP, Low Noise, Rail-to-Rail, Single-Supply; MANF: Texas Instruments; MANF_P#: OPA354AIDBV; PARAM2: 2.5~5.5V, 6.5nV/√Hz, 250MHz BW; PARAM: 100mA out, 3pA in, 150v/us, -40~125°C; PRICE: 3000t@PAYA, 1.8$; PACKAGE: SOT-23-5; VALUE: OPA354
footprint SOT23_5 (SOT-23-5, SOT25, SOT-25, DBV(R-PDSO-G5), TSOT23-5, SC-74A, SOT23-5, S5-T (LINEAR), MO-178AA, MO-193AB(JEDEC), MF05A (NS), TSOP-6(ON), UJ-5 (AD))
pins: 1 OUT, 2 V-, 3 IN+, 4 IN-, 5 V+

## OPA354Q_SOT23
designator U?, comment OPA354Q
AMP, Low Noise, Rail-to-Rail, Single-Supply; MANF: Texas Instruments; MANF_P#: OPA354AQDBVRQ1; PARAM2: 2.5~5.5V, 6.5nV/√Hz, 250MHz BW; PARAM: 100mA out, 3pA in, 150v/us, -40~125°C; PRICE: 2.2$; PACKAGE: SOT-23-5; VALUE: OPA354Q
footprint SOT23_5 (SOT-23-5, SOT25, SOT-25, DBV(R-PDSO-G5), TSOT23-5, SC-74A, SOT23-5, S5-T (LINEAR), MO-178AA, MO-193AB(JEDEC), MF05A (NS), TSOP-6(ON), UJ-5 (AD))
pins: 1 OUT, 2 V-, 3 IN+, 4 IN-, 5 V+

## OPA547_TO263
designator U?, comment OPA547
AMP, HighVoltage, High Current; MANF: Texas Instruments; MANF_P#: OPA547F; PARAM2: ±4~±30V/8~60v; PARAM: 0.5A; VALUE: OPA547
footprint D2PAK_7 (TO-263-7, D2PAK-7, FMG127_7_S1000)
pins: 1 IN+, 2 IN-, 3 ILIM, 4 V-, 5 V+, 6 OUT, 7 E/S, 8 EP

## OPA2132_DIP8
designator U?, comment OPA2132
AMP, Ultra-Low Noise, Precision; MANF: Texas Instruments; MANF_P#: OPA2132PA; PARAM2: ±2.5~±18V, 8nV/√Hz, 8MHz BW; PARAM: 50pA, 20V/us, 500uV OFFSET, -40~125°C; PRICE: 7$; VALUE: OPA2132
footprint DIP_8 (DIP, pitch 2.54mm, 300mil Width)
part A pins: 1 OUT, 2 IN-, 3 IN+, 4 V-, 8 V+
part B pins: 4 V-, 5 IN+, 6 IN-, 7 OUT, 8 V+

## OPA2132_SOP8
designator U?, comment OPA2132
AMP, Ultra-Low Noise, Precision; MANF: Texas Instruments; MANF_P#: OPA2132UA; PARAM2: ±2.5~±18V, 8nV/√Hz, 8MHz BW; PARAM: 50pA, 20V/us, 500uV OFFSET, -40~125°C; PRICE: 7$; VALUE: OPA2132
footprint SO_8 (SOP-8, 5x3.9mm body 1.27mm pitch, SOT96-1, M08A, S8, SOIC8, VO8, MS-012AA(JEDEC), R-8, 8S2, VOG8)
part A pins: 1 OUT, 2 IN-, 3 IN+, 4 V-, 8 V+
part B pins: 4 V-, 5 IN+, 6 IN-, 7 OUT, 8 V+

## OPA2171_SOP8
designator U?, comment OPA2171
AMP, Low Noise, Low Drift, Single-Supply; MANF: Texas Instruments; MANF_P#: OPA2171AID; PARAM2: 2.7~36V, ±1.35~±18V, 3MHz BW; PARAM: 8pA input, 14nV/√Hz, -40~125°C; PRICE: 2.2$; VALUE: OPA2171
footprint SO_8 (SOP-8, 5x3.9mm body 1.27mm pitch, SOT96-1, M08A, S8, SOIC8, VO8, MS-012AA(JEDEC), R-8, 8S2, VOG8)
part A pins: 1 OUT, 2 IN-, 3 IN+, 4 V-, 8 V+
part B pins: 4 V-, 5 IN+, 6 IN-, 7 OUT, 8 V+

## OPA2171_SSOP8
designator U?, comment OPA2171
AMP, Low Noise, Low Drift, Single-Supply; MANF: Texas Instruments; MANF_P#: OPA2171AIDGK; PARAM2: 2.7~36V, ±1.35~±18V, 3MHz BW; PARAM: 8pA input, 14nV/√Hz, -40~125°C; PRICE: 2.2$; VALUE: OPA2171
footprint SOG65_8_3 (TSSOP8, MICRO8,  DGK VSSOP-8, MSOP8,   RM-8, MS8, MSOP-8, TSSO3X5-G8/D3.1, 8 uMAX, usop8/8uSOP, MO-187AA, MO-153AA, SSOP DCT SM8 (TI), pitch: 0.65mm, 3.0mmX3.0mm)
part A pins: 1 OUT, 2 IN-, 3 IN+, 4 V-, 8 V+
part B pins: 4 V-, 5 IN+, 6 IN-, 7 OUT, 8 V+

## OPA2171_VSSOP8
designator U?, comment OPA2171
AMP, Low Noise, Low Drift, Single-Supply; MANF: Texas Instruments; MANF_P#: OPA2171AIDCU; PARAM2: 2.7~36V, ±1.35~±18V, 3MHz BW; PARAM: 8pA input, 14nV/√Hz, -40~125°C; PRICE: 2.2$; VALUE: OPA2171
footprint SOG50_8 (VSSOP DCU US8  (TI), 8-Leads, 2.00x2.30mm, Pitch 0.50mm)
part A pins: 1 OUT, 2 IN-, 3 IN+, 4 V-, 8 V+
part B pins: 4 V-, 5 IN+, 6 IN-, 7 OUT, 8 V+

## OPA2340_DIP8
designator U?, comment OPA2340
AMP, Rail-to-Rail, Dual; MANF: Texas Instruments; MANF_P#: OPA2340PA; PARAM2: 2.5~5.5V, 5.5MHz BW; PARAM: 6v/us, -40~85°C; PRICE: 4$; VALUE: OPA2340
footprint DIP_8 (DIP, pitch 2.54mm, 300mil Width)
part A pins: 1 OUT, 2 IN-, 3 IN+, 4 V-, 8 V+
part B pins: 4 V-, 5 IN+, 6 IN-, 7 OUT, 8 V+

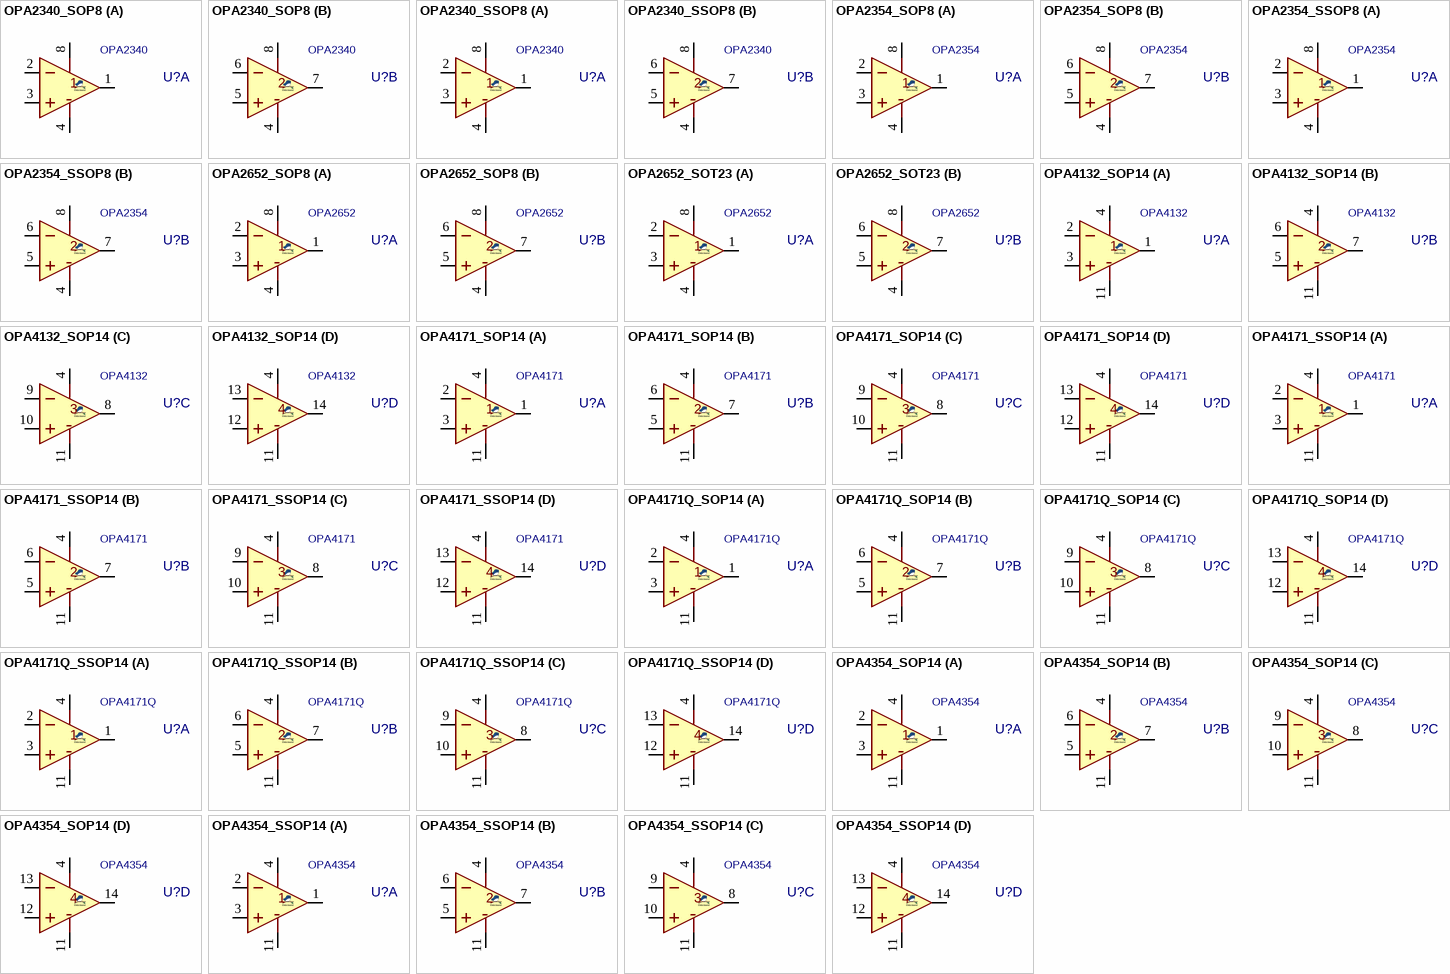
[diagram p3: symbols OPA2340_SOP8 to OPA4354_SSOP14]

## OPA2340_SOP8
designator U?, comment OPA2340
AMP, Rail-to-Rail, Dual; MANF: Texas Instruments; MANF_P#: OPA2340UA; PARAM2: 2.5~5.5V, 5.5MHz BW; PARAM: 6v/us, -40~85°C; PRICE: 10000t@PAYA, 4$; VALUE: OPA2340
footprint SO_8 (SOP-8, 5x3.9mm body 1.27mm pitch, SOT96-1, M08A, S8, SOIC8, VO8, MS-012AA(JEDEC), R-8, 8S2, VOG8)
part A pins: 1 OUT, 2 IN-, 3 IN+, 4 V-, 8 V+
part B pins: 4 V-, 5 IN+, 6 IN-, 7 OUT, 8 V+

## OPA2340_SSOP8
designator U?, comment OPA2340
AMP, Rail-to-Rail, Dual; MANF: Texas Instruments; MANF_P#: OPA2340EA; PARAM2: 2.5~5.5V, 5.5MHz BW; PARAM: 6v/us, -40~85°C; PRICE: 4$; VALUE: OPA2340
footprint SOG65_8_3 (TSSOP8, MICRO8,  DGK VSSOP-8, MSOP8,   RM-8, MS8, MSOP-8, TSSO3X5-G8/D3.1, 8 uMAX, usop8/8uSOP, MO-187AA, MO-153AA, SSOP DCT SM8 (TI), pitch: 0.65mm, 3.0mmX3.0mm)
part A pins: 1 OUT, 2 IN-, 3 IN+, 4 V-, 8 V+
part B pins: 4 V-, 5 IN+, 6 IN-, 7 OUT, 8 V+

## OPA2354_SOP8
designator U?, comment OPA2354
AMP, Low Noise, Rail-to-Rail, Single-Supply; MANF: Texas Instruments; MANF_P#: OPA2354AIDDA; PARAM2: 2.5~5.5V, 6.5nV/√Hz, 250MHz BW; PARAM: 100mA out, 3pA in, 150v/us, -40~125°C; PRICE: 3$; VALUE: OPA2354
footprint SO_8 (SOP-8, 5x3.9mm body 1.27mm pitch, SOT96-1, M08A, S8, SOIC8, VO8, MS-012AA(JEDEC), R-8, 8S2, VOG8)
part A pins: 1 OUT, 2 IN-, 3 IN+, 4 V-, 8 V+
part B pins: 4 V-, 5 IN+, 6 IN-, 7 OUT, 8 V+

## OPA2354_SSOP8
designator U?, comment OPA2354
AMP, Low Noise, Rail-to-Rail, Single-Supply; MANF: Texas Instruments; MANF_P#: OPA2354AIDGK; PARAM2: 2.5~5.5V, 6.5nV/√Hz, 250MHz BW; PARAM: 100mA out, 3pA in, 150v/us, -40~125°C; PRICE: 3$; VALUE: OPA2354
footprint SOG65_8_3 (TSSOP8, MICRO8,  DGK VSSOP-8, MSOP8,   RM-8, MS8, MSOP-8, TSSO3X5-G8/D3.1, 8 uMAX, usop8/8uSOP, MO-187AA, MO-153AA, SSOP DCT SM8 (TI), pitch: 0.65mm, 3.0mmX3.0mm)
part A pins: 1 OUT, 2 IN-, 3 IN+, 4 V-, 8 V+
part B pins: 4 V-, 5 IN+, 6 IN-, 7 OUT, 8 V+

## OPA2652_SOP8
designator U?, comment OPA2652
AMP, Rail-to-Rail, Dual; MANF: Texas Instruments; MANF_P#: OPA2652U; PARAM2: ±3~±6V/6~12V, 700MHz BW; PARAM: 140mA out, 5.5mA supply, -40~85°C; PRICE: 3.6$; VALUE: OPA2652
footprint SO_8 (SOP-8, 5x3.9mm body 1.27mm pitch, SOT96-1, M08A, S8, SOIC8, VO8, MS-012AA(JEDEC), R-8, 8S2, VOG8)
part A pins: 1 OUT, 2 IN-, 3 IN+, 4 V-, 8 V+
part B pins: 4 V-, 5 IN+, 6 IN-, 7 OUT, 8 V+

## OPA2652_SOT23
designator U?, comment OPA2652
AMP, Rail-to-Rail, Dual; MANF: Texas Instruments; MANF_P#: OPA2652E; PARAM2: ±3~±6V/6~12V, 700MHz BW; PARAM: 140mA out, 5.5mA supply, -40~85°C; PRICE: 6000t@PAYA, 3.6$; PACKAGE: SOT-23-8; VALUE: OPA2652
footprint SOT23_8 (SOT23, 8-Leads, DDF, 2.90x2.80mm, Pitch 0.65mm, DSO65_8_300X150)
part A pins: 1 OUT, 2 IN-, 3 IN+, 4 V-, 8 V+
part B pins: 4 V-, 5 IN+, 6 IN-, 7 OUT, 8 V+

## OPA4132_SOP14
designator U?, comment OPA4132
AMP, Ultra-Low Noise, Precision; MANF: Texas Instruments; MANF_P#: OPA4132UA; PARAM2: ±2.5~±18V, 8nV/√Hz, 8MHz BW; PARAM: 50pA, 20V/us, 500uV OFFSET, -40~125°C; PRICE: 7$; VALUE: OPA4132
footprint SO_14 (SOP, SOIC, 3.9mm width, 1.27mm pitch,)
part A pins: 1 OUT, 2 IN-, 3 IN+, 4 V+, 11 V-
part B pins: 4 V+, 5 IN+, 6 IN-, 7 OUT, 11 V-
part C pins: 4 V+, 8 OUT, 9 IN-, 10 IN+, 11 V-
part D pins: 4 V+, 11 V-, 12 IN+, 13 IN-, 14 OUT

## OPA4171_SOP14
designator U?, comment OPA4171
AMP, Low Noise, Low Drift, Single-Supply; MANF: Texas Instruments; MANF_P#: OPA4171AID; PARAM2: 2.7~36V, ±1.35~±18V, 3MHz BW; PARAM: 8pA input, 14nV/√Hz, -40~125°C; PRICE: 3$; VALUE: OPA4171
footprint SO_14 (SOP, SOIC, 3.9mm width, 1.27mm pitch,)
part A pins: 1 OUT, 2 IN-, 3 IN+, 4 V+, 11 V-
part B pins: 4 V+, 5 IN+, 6 IN-, 7 OUT, 11 V-
part C pins: 4 V+, 8 OUT, 9 IN-, 10 IN+, 11 V-
part D pins: 4 V+, 11 V-, 12 IN+, 13 IN-, 14 OUT

## OPA4171_SSOP14
designator U?, comment OPA4171
AMP, Low Noise, Low Drift, Single-Supply; MANF: Texas Instruments; MANF_P#: OPA4171AIPW; PARAM2: 2.7~36V, ±1.35~±18V, 3MHz BW; PARAM: 8pA input, 14nV/√Hz, -40~125°C; PRICE: 3$; VALUE: OPA4171
footprint SOG65_14 (PW TSSOP (TI), MO-153-AB (JEDEC), 14Lead, pitch: 0.65mm, 5x4.4x1.2mm)
part A pins: 1 OUT, 2 IN-, 3 IN+, 4 V+, 11 V-
part B pins: 4 V+, 5 IN+, 6 IN-, 7 OUT, 11 V-
part C pins: 4 V+, 8 OUT, 9 IN-, 10 IN+, 11 V-
part D pins: 4 V+, 11 V-, 12 IN+, 13 IN-, 14 OUT

## OPA4171Q_SOP14
designator U?, comment OPA4171Q
AMP, Low Noise, Low Drift, Single-Supply; MANF: Texas Instruments; MANF_P#: OPA4171AQDRQ1; PARAM2: 2.7~36V, ±1.35~±18V, 3MHz BW; PARAM: 8pA input, 14nV/√Hz, -40~125°C; PRICE: 3$; VALUE: OPA4171Q
footprint SO_14 (SOP, SOIC, 3.9mm width, 1.27mm pitch,)
part A pins: 1 OUT, 2 IN-, 3 IN+, 4 V+, 11 V-
part B pins: 4 V+, 5 IN+, 6 IN-, 7 OUT, 11 V-
part C pins: 4 V+, 8 OUT, 9 IN-, 10 IN+, 11 V-
part D pins: 4 V+, 11 V-, 12 IN+, 13 IN-, 14 OUT

## OPA4171Q_SSOP14
designator U?, comment OPA4171Q
AMP, Low Noise, Low Drift, Single-Supply; MANF: Texas Instruments; MANF_P#: OPA4171AQPWRQ1; PARAM2: 2.7~36V, ±1.35~±18V, 3MHz BW; PARAM: 8pA input, 14nV/√Hz, -40~125°C; PRICE: 3$; VALUE: OPA4171Q
footprint SOG65_14 (PW TSSOP (TI), MO-153-AB (JEDEC), 14Lead, pitch: 0.65mm, 5x4.4x1.2mm)
part A pins: 1 OUT, 2 IN-, 3 IN+, 4 V+, 11 V-
part B pins: 4 V+, 5 IN+, 6 IN-, 7 OUT, 11 V-
part C pins: 4 V+, 8 OUT, 9 IN-, 10 IN+, 11 V-
part D pins: 4 V+, 11 V-, 12 IN+, 13 IN-, 14 OUT

## OPA4354_SOP14
designator U?, comment OPA4354
AMP, Low Noise, Rail-to-Rail, Single-Supply; MANF: Texas Instruments; MANF_P#: OPA4354AID; PARAM2: 2.5~5.5V, 6.5nV/√Hz, 250MHz BW; PARAM: 100mA out, 3pA in, 150v/us, -40~125°C; PRICE: 3.8$; VALUE: OPA4354
footprint SO_14 (SOP, SOIC, 3.9mm width, 1.27mm pitch,)
part A pins: 1 OUT, 2 IN-, 3 IN+, 4 V+, 11 V-
part B pins: 4 V+, 5 IN+, 6 IN-, 7 OUT, 11 V-
part C pins: 4 V+, 8 OUT, 9 IN-, 10 IN+, 11 V-
part D pins: 4 V+, 11 V-, 12 IN+, 13 IN-, 14 OUT

## OPA4354_SSOP14
designator U?, comment OPA4354
AMP, Low Noise, Rail-to-Rail, Single-Supply; MANF: Texas Instruments; MANF_P#: OPA4354AIPW; PARAM2: 2.5~5.5V, 6.5nV/√Hz, 250MHz BW; PARAM: 100mA out, 3pA in, 150v/us, -40~125°C; PRICE: 3.8$; VALUE: OPA4354
footprint SOG65_14 (PW TSSOP (TI), MO-153-AB (JEDEC), 14Lead, pitch: 0.65mm, 5x4.4x1.2mm)
part A pins: 1 OUT, 2 IN-, 3 IN+, 4 V+, 11 V-
part B pins: 4 V+, 5 IN+, 6 IN-, 7 OUT, 11 V-
part C pins: 4 V+, 8 OUT, 9 IN-, 10 IN+, 11 V-
part D pins: 4 V+, 11 V-, 12 IN+, 13 IN-, 14 OUT

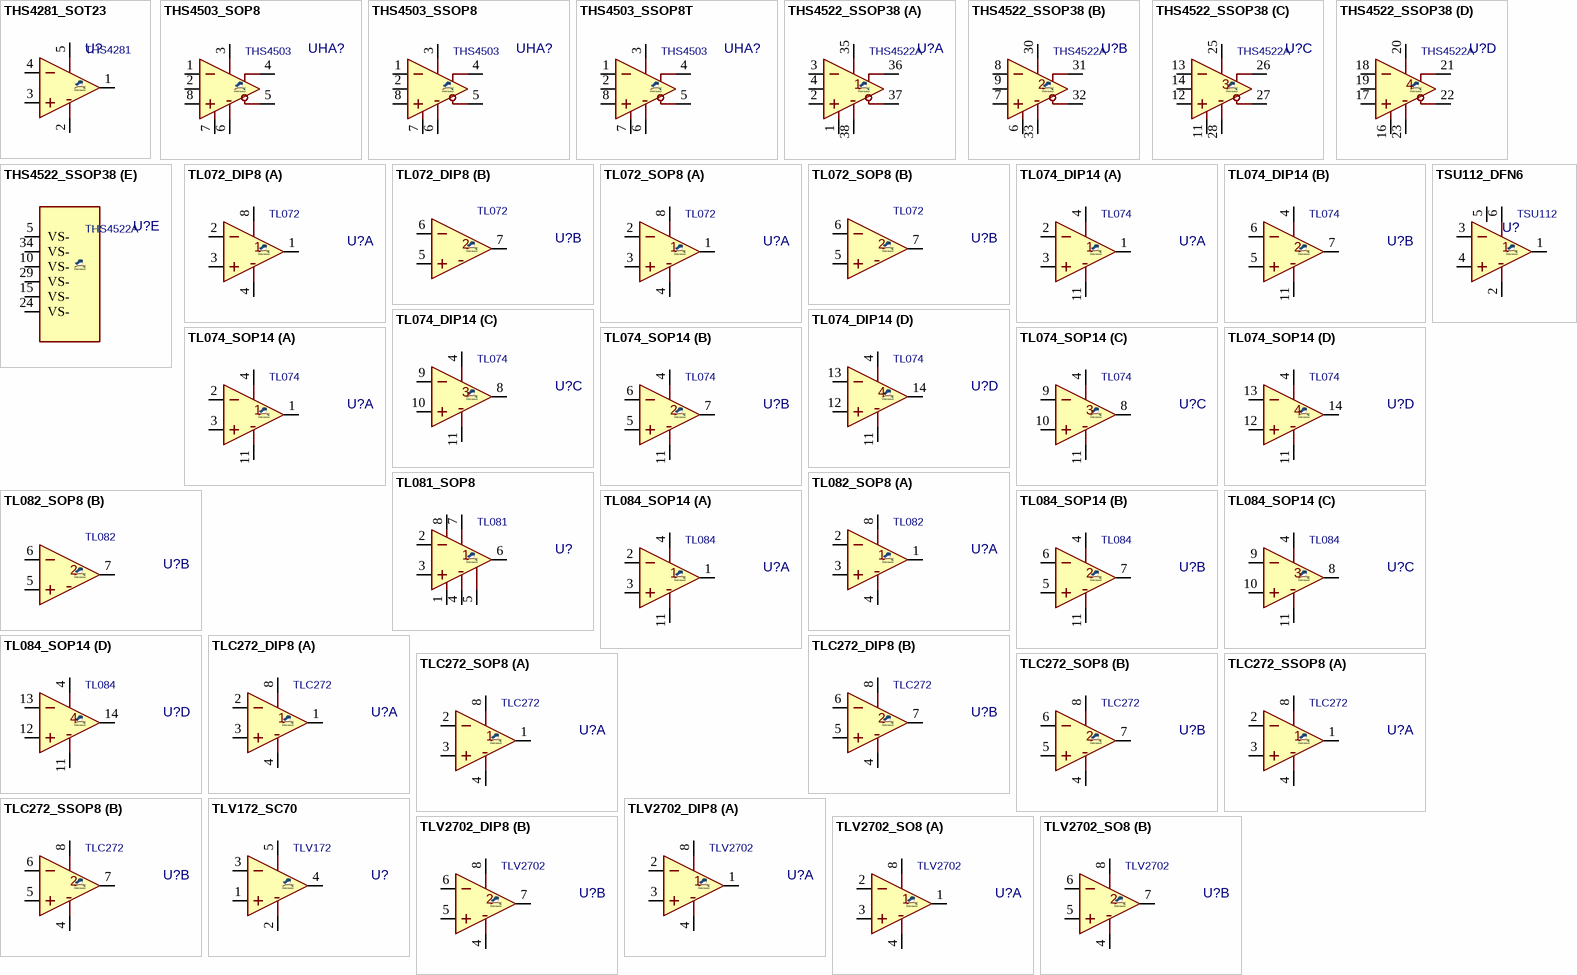
[diagram p4: symbols THS4281_SOT23 to TSU112_DFN6]

## THS4281_SOT23
designator U?, comment THS4281
AMP, High Speed, Very Lo-Pwr, rail-to-rail; MANF: Texas Instruments; MANF_P#: THS4281DBV; PARAM2: 2.7~15v; PARAM: 90MHz BW; PACKAGE: SOT-23-5; VALUE: THS4281
footprint SOT23_5 (SOT-23-5, SOT25, SOT-25, DBV(R-PDSO-G5), TSOT23-5, SC-74A, SOT23-5, S5-T (LINEAR), MO-178AA, MO-193AB(JEDEC), MF05A (NS), TSOP-6(ON), UJ-5 (AD))
pins: 1 OUT, 2 V-, 3 IN+, 4 IN-, 5 V+

## THS4503_SOP8
designator UHA?, comment THS4503
AMP, Differential, Hi-Sp, Fully-Diff; MANF: Texas Instruments; PARAM: 300MHz BW; MANF_P#: THS4503ID; PRICE: 1= 11.26$; PARAM2: PARAM2; VALUE: THS4503
footprint SO_8
pins: 1 IN-, 2 VCM (power), 3 VS+ (power), 4 OUT+, 5 OUT-, 6 VS- (power), 7 PD#, 8 IN+

## THS4503_SSOP8
designator UHA?, comment THS4503
AMP, Differential, Hi-Sp, Fully-Diff; MANF: Texas Instruments; PARAM: 300MHz BW; MANF_P#: THS4503IDGK; PRICE: 1= 11.26$; PARAM2: PARAM2; VALUE: THS4503
footprint SOG65_8_3 (pitch: 0.65mm, 3.0mmX3.0mm, SSOP DCT SM8 (TI), TSSOP8, MICRO8, DGK, MSOP8, RM-8, MS8, MSOP-8, usop8/8uSOP)
pins: 1 IN-, 2 VCM (power), 3 VS+ (power), 4 OUT+, 5 OUT-, 6 VS- (power), 7 PD#, 8 IN+

## THS4503_SSOP8T
designator UHA?, comment THS4503
AMP, Differential, Hi-Sp, Fully-Diff; MANF: Texas Instruments; PARAM: 300MHz BW; MANF_P#: THS4503IDGN; PRICE: 1= 11.26$; PARAM2: PARAM2; VALUE: THS4503
footprint SOG65_8T_3
pins: 1 IN-, 2 VCM (power), 3 VS+ (power), 4 OUT+, 5 OUT-, 6 VS- (power), 7 PD#, 8 IN+

## THS4522_SSOP38
designator U?, comment THS4522A
AMP, Quad, Differential, Hi-Sp, Fully-Diff; MANF: Texas Instruments; MANF_P#: THS4524IDBT; PARAM: 145MHz BW; VALUE: THS4522A
footprint SOG50_38 (38L TSSOP (MAXIM),38Lead, pitch: 0.5mm, 10x4.4x1.2mm)
part A pins: 1 PD#1, 2 I1P, 3 I1N, 4 CM1 (power), 35 VS1+ (power), 36 O1P, 37 O1N, 38 VS1- (power)
part B pins: 6 PD#2, 7 I2P, 8 I2N, 9 CM2 (power), 30 VS2+ (power), 31 O2P, 32 O2N, 33 VS2- (power)
part C pins: 11 PD#3, 12 I3P, 13 I3N, 14 CM3 (power), 25 VS3+ (power), 26 O3P, 27 O3N, 28 VS3- (power)
part D pins: 16 PD#4, 17 I4P, 18 I4N, 19 CM4 (power), 20 VS4+ (power), 21 O4P, 22 O4N, 23 VS4- (power)
part E pins: 5 VS- (power), 10 VS- (power), 15 VS- (power), 24 VS- (power), 29 VS- (power), 34 VS- (power)

## TL072_DIP8
designator U?, comment TL072
AMP, Dual, Lo-Noise, JFET Input; MANF: Texas Instruments; MANF_P#: TL072IP; VALUE: TL072
footprint DIP_8 (DIP, pitch 2.54mm, 300mil Width)
part A pins: 1 OUT1, 2 IN1-, 3 IN2+, 4 V-, 8 V+
part B pins: 5 IN2+, 6 IN2-, 7 OUT2

## TL072_SOP8
designator U?, comment TL072
AMP, Dual, Lo-Noise, JFET Input; MANF: Texas Instruments; MANF_P#: TL072CDR, TL072IDR; VALUE: TL072
footprint SO_8
part A pins: 1 OUT1, 2 IN1-, 3 IN2+, 4 V-, 8 V+
part B pins: 5 IN2+, 6 IN2-, 7 OUT2

## TL074_DIP14
designator U?, comment TL074
AMP, Quad, Low-Noise JFET-Input; MANF: Texas Instruments; MANF_P#: TL074CN, TL074BCN; VALUE: TL074
footprint DIP_14 (DIP, pitch 2.54mm, 300mil Width)
pins on every part: 4 V+, 11 V-
part A pins: 1 OUT, 2 IN-, 3 IN+
part B pins: 5 IN+, 6 IN-, 7 OUT
part C pins: 8 OUT, 9 IN-, 10 IN+
part D pins: 12 IN+, 13 IN-, 14 OUT

## TL074_SOP14
designator U?, comment TL074
AMP, Quad, Low-Noise JFET-Input; MANF: Texas Instruments, ST; MANF_P#: TL074CD, TL074ACD, TL074QDREP, TL074BCD, TL074ID, TL074MDEP; VALUE: TL074
footprint SO_14
pins on every part: 4 V+, 11 V-
part A pins: 1 OUT, 2 IN-, 3 IN+
part B pins: 5 IN+, 6 IN-, 7 OUT
part C pins: 8 OUT, 9 IN-, 10 IN+
part D pins: 12 IN+, 13 IN-, 14 OUT

## TL081_SOP8
designator U?, comment TL081
AMP, Dual, Lo-Noise, JFET Input; MANF: Texas Instruments, ST; MANF_P#: TL081A; VALUE: TL081
footprint SO_8
pins: 1 OFFSETN1, 2 IN1-, 3 IN2+, 4 V-, 5 OFFSETN2, 6 OUT, 7 V+, 8 NC

## TL082_SOP8
designator U?, comment TL082
AMP, Dual, Lo-Noise, JFET Input; MANF: Texas Instruments, ST; MANF_P#: TL082CD, TL082ID, TL082BCD, TL082CMX; VALUE: TL082
footprint SO_8
part A pins: 1 OUT1, 2 IN1-, 3 IN2+, 4 V-, 8 V+
part B pins: 5 IN2+, 6 IN2-, 7 OUT2

## TL084_SOP14
designator U?, comment TL084
AMP, Quad, Low-Noise JFET-Input, LowPower; MANF: Texas Instruments, ST; MANF_P#: TL084ID; PARAM2: ±18VCC, ±30Vindiff, -40~85oC; VALUE: TL084
footprint SO_14
pins on every part: 4 V+, 11 V-
part A pins: 1 OUT, 2 IN-, 3 IN+
part B pins: 5 IN+, 6 IN-, 7 OUT
part C pins: 8 OUT, 9 IN-, 10 IN+
part D pins: 12 IN+, 13 IN-, 14 OUT

## TLC272_DIP8
designator U?, comment TLC272
AMP, Dual,; MANF: Texas Instruments; MANF_P#: TLC272CP, TLC272IP; VALUE: TLC272
footprint DIP_8 (DIP, pitch 2.54mm, 300mil Width)
part A pins: 1 OUT, 2 IN-, 3 IN+, 4 V-, 8 V+
part B pins: 4 V-, 5 IN+, 6 IN-, 7 OUT, 8 V+

## TLC272_SOP8
designator U?, comment TLC272
AMP, Dual,; MANF: Texas Instruments; MANF_P#: TLC272CD, TLC272AID, TLC272ID, TLC272BID, TLC272CPS, TLC272BCD, TLC272AID; VALUE: TLC272
footprint SO_8
part A pins: 1 OUT, 2 IN-, 3 IN+, 4 V-, 8 V+
part B pins: 4 V-, 5 IN+, 6 IN-, 7 OUT, 8 V+

## TLC272_SSOP8
designator U?, comment TLC272
AMP, Dual,; MANF: Texas Instruments; MANF_P#: TLC272CPW; VALUE: TLC272
footprint SOG65_8 (PW TSSOP (TI), MO-153 (JEDEC), 8Lead, pitch: 0.65mm, 3x4.4x1.2mm)
part A pins: 1 OUT, 2 IN-, 3 IN+, 4 V-, 8 V+
part B pins: 4 V-, 5 IN+, 6 IN-, 7 OUT, 8 V+

## TLV172_SC70
designator U?, comment TLV172
AMP, Lo-Noise, 10MHz; MANF: Texas Instruments; MANF_P#: TLV172IDCK; PARAM2: 4.5~36V/±2.25~±18V; PARAM: 10MHz, -40~125oC; PRICE: 1.1$; VALUE: TLV172
footprint SOT353_5 (SC-88A, SC70-5, SOT-353, DCK (TI), 0.65mm pitch 2X1.3mm body)
pins: 1 IN+, 2 V-, 3 IN-, 4 OUT, 5 V+

## TLV2702_DIP8
designator U?, comment TLV2702
AMP, Dual, nanoPWR, PUSH-PULL COMPARATORS; MANF: Texas Instruments; MANF_P#: TLV2702IP; VALUE: TLV2702
footprint DIP_8 (DIP, pitch 2.54mm, 300mil Width)
part A pins: 1 OUT, 2 IN-, 3 IN+, 4 V-, 8 V+
part B pins: 4 V-, 5 IN+, 6 IN-, 7 OUT, 8 V+

## TLV2702_SO8
designator U?, comment TLV2702
AMP, Dual, nanoPWR, PUSH-PULL COMPARATORS; MANF: Texas Instruments; MANF_P#: TLV2702ID; VALUE: TLV2702
footprint SO_8
part A pins: 1 OUT, 2 IN-, 3 IN+, 4 V-, 8 V+
part B pins: 4 V-, 5 IN+, 6 IN-, 7 OUT, 8 V+

## TSU112_DFN6
designator U?, comment TSU112
AMP, Low-Power; MANF: STMicroelectronics; MANF_P#: TSU111IQ1T; PARAM2: 1.5~5.5VCC, 150uVoffset, 3.8uVin noise; PARAM: 10pA input, 900nA, -40~85°C; PRICE: 2$; VALUE: TSU112
footprint SON40_6_1213 (DFN6 1.2x1.3mm, 6-Leads, Pitch 0.40mm)
pins: 1 OUT, 2 V-, 3 IN-, 4 IN+, 5 NC, 6 V+

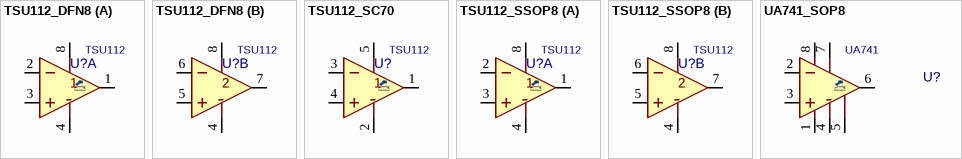
[diagram p5: symbols TSU112_DFN8 to UA741_SOP8]

## TSU112_DFN8
designator U?, comment TSU112
AMP, DuaL, Low-Power; MANF: STMicroelectronics; MANF_P#: TSU112IQ2T; PARAM2: 1.5~5.5VCC, 150uVoffset, 3.8uVin noise; PARAM: 10pA input, 900nA, -40~85°C; PRICE: 2$; VALUE: TSU112
footprint SON50_8T_2X2 (DSG PWSON (TI), Pitch: 0.5mm 2x2x0.8mm with Thermal pad)
pins on every part: 4 V-, 8 V+
part A pins: 1 OUT, 2 IN-, 3 IN+
part B pins: 5 IN+, 6 IN-, 7 OUT

## TSU112_SC70
designator U?, comment TSU112
AMP, Low-Power; MANF: STMicroelectronics; MANF_P#: TSU111IQ1T; PARAM2: 1.5~5.5VCC, 150uVoffset, 3.8uVin noise; PARAM: 10pA input, 900nA, -40~85°C; PRICE: 2$; VALUE: TSU112
footprint SOT353_5 (SC-88A, SC70-5, TSSOP5, SOT-353, DCK (TI), 0.65mm pitch 2X1.3mm body)
pins: 1 OUT, 2 V-, 3 IN-, 4 IN+, 5 V+

## TSU112_SSOP8
designator U?, comment TSU112
AMP, Dual, Low-Power; MANF: STMicroelectronics; MANF_P#: TSU112IST; PARAM2: 1.5~5.5VCC, 150uVoffset, 3.8uVin noise; PARAM: 10pA input, 900nA, -40~85°C; PRICE: 2$; VALUE: TSU112
footprint SOG65_8_3 (TSSOP8, MICRO8, DGK VSSOP-8, pitch: 0.65mm, 3X3mm, MSOP8, RM-8, MS8, MSOP-8, TSSO3X5-G8/D3.1, 8 uMAX, usop8/8uSOP, MO-187AA, MO-153AA, SSOP DCT (TI))
pins on every part: 4 V-, 8 V+
part A pins: 1 OUT, 2 IN-, 3 IN+
part B pins: 5 IN+, 6 IN-, 7 OUT

## UA741_SOP8
designator U?, comment UA741
AMP, General-Purpose; MANF: ST, Texas Instruments; MANF_P#: UA741ID, UA741CDR; VALUE: UA741
footprint SO_8
pins: 1 OFFSET_NULL, 2 IN-, 3 IN+, 4 V-, 5 OFFSET_NULL, 6 OUT, 7 V+, 8 NC